# Altium schematic symbol library LEO_COTS_components.SchLib: 12 symbols
Pins are listed as number, name and electrical type; pins without a type are passive.

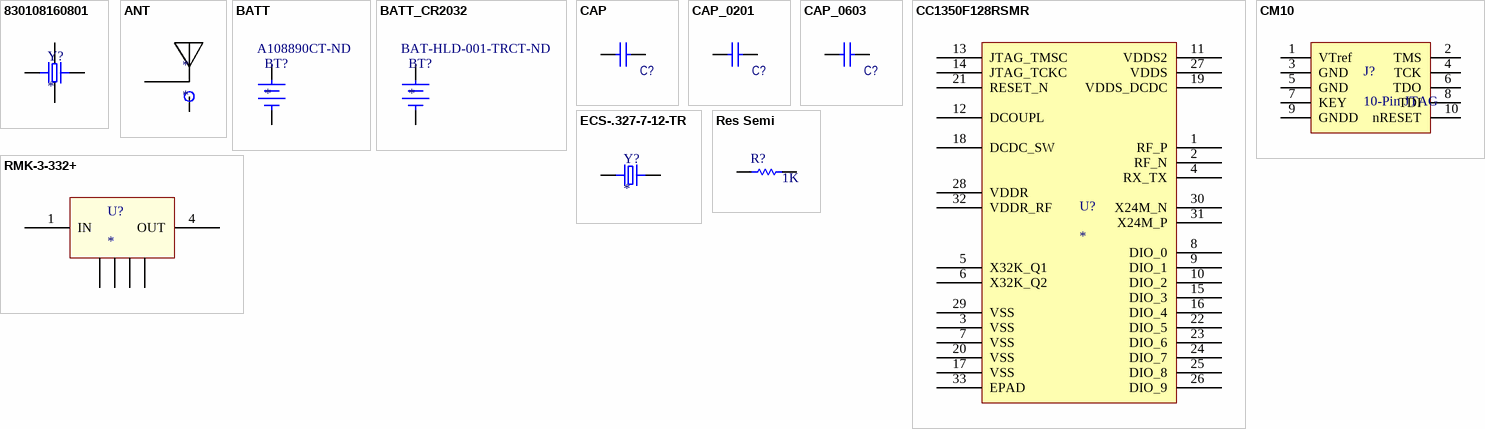
[diagram p0: symbols 830108160801 to RMK-3-332+]

## 830108160801
designator Y?
24 MHz crystal; MP: ECS-.327-7-12-TR; Package: None; Price: None; Value: *; Availability: Unavailable
footprint LFXTAL081608 (1.6mm x 1.2mm SMD crystal)
pins: 1, 2 "GND", 3, 4 "GND"

## ANT
designator *
footprint RESLOOP_OD10_fw15_fl180_sw12_sl15 (Microstrip resonant planar loop)
pins: 1 +, 2 -

## BATT
designator BT?  Supplier Part Number 1: A108890CT-ND
Supplier 1: Digi-Key
footprint 1318164-1 (BATTERY HOLDER COIN 6.8MM SMD)
pins: 1 +, 2 -

## BATT_CR2032
designator BT?  Supplier Part Number 1: BAT-HLD-001-TRCT-ND
CR2032 Battery Holder; Supplier 1: Digi-Key
footprint BAT-HLD-001-TR
pins: N1 -, P1 +, P2 +

## CAP
designator C?
CAP CER 0603
footprint 0603 (Chip Inductor, Body 0.6x0.3mm, IPC High Density)
footprint 0402 (Chip Capacitor, Body 1.0x0.5mm, IPC High Density)
footprint 1608[0603] (Chip Capacitor, Body 1.6x0.8mm, IPC High Density)
pins: 1, 2
2 alternate drawings of the same symbol

## CAP_0201
designator C?
CAP CER 0201
footprint CAPC0603X04N (Chip Capacitor, 2-Leads, Body 0.60x0.30mm, IPC Medium Density)
pins: 1, 2
2 alternate drawings of the same symbol

## CAP_0603
designator C?
CAP CER 0603
footprint CAPC1608X05N (Chip Capacitor, 2-Leads, Body 1.55x0.85mm, IPC Medium Density)
pins: 1, 2
2 alternate drawings of the same symbol

## CC1350F128RSMR
designator U?
Ultra-Low-Power Dual-Band Wireless MCU
footprint QFN40P400X400X100-33N
pins: 1 RF_P, 2 RF_N, 3 VSS, 4 RX_TX, 5 X32K_Q1, 6 X32K_Q2, 7 VSS, 8 DIO_0, 9 DIO_1, 10 DIO_2, 11 VDDS2, 12 DCOUPL, 13 JTAG_TMSC, 14 JTAG_TCKC, 15 DIO_3, 16 DIO_4, 17 VSS, 18 DCDC_SW, 19 VDDS_DCDC, 20 VSS, 21 RESET_N, 22 DIO_5, 23 DIO_6, 24 DIO_7, 25 DIO_8, 26 DIO_9, 27 VDDS, 28 VDDR, 29 VSS, 30 X24M_N, 31 X24M_P, 32 VDDR_RF, 33 EPAD

## CM10
designator J?, comment 10-Pin JTAG
Supplier 1: Digi-Key; Supplier Part Number 1: FTSH-105-01-L-DV-007-K-P-ND
footprint FTSH-105-01-F-DV-007-K
pins: 1 VTref, 2 TMS, 3 GND, 4 TCK, 5 GND, 6 TDO, 7 KEY, 8 TDI, 9 GNDD, 10 nRESET

## ECS-.327-7-12-TR
designator Y?
32.768 kHz SMD Crystal; MP: ECS-.327-7-12-TR; Package: None; Price: None; Value: *; Availability: Unavailable
footprint XTAL_ECS-.327-7-12-TR
pins: 1, 2

## Res Semi
designator R?  value 1K
Semiconductor Resistor; Published: 8-Jun-2000; LatestRevisionDate: 17-Jul-2002; LatestRevisionNote: Re-released for DXP Platform.; PackageReference: AXIAL-0.5; Publisher: Altium Limited; PackageDescription: Axial Device, Thru-Hole; 2 Leads; 0.5 in Pin Spacing
footprint CAPC0603X04N (Chip Capacitor, 2-Leads, Body 0.60x0.30mm, IPC Medium Density)
footprint CAPC1608X05N (Chip Capacitor, 2-Leads, Body 1.55x0.85mm, IPC Medium Density)
pins: 1, 2

## RMK-3-332+
designator U?
3x Frequency Multiplier
footprint RMK-3-331+ (MiniCircuits TT12245 case)
pins: 1 IN, 2, 3, 4 OUT, 5, 6